# EAGLE library part 5502-15SA-01-F1 (library 5502-15SA-01-F1)
D Sub Connector, Standard, Receptacle, 5502, 15 Contacts, DA, Solder Source: Datasheet <https://4donline.ihs.com/images/VipMasterIC/IC/SCMP/SCMP-S-A0011490128/SCMP-S-A0011490128-1.pdf?hkey=6D3A4C79FDBF58556ACFDE234799DDF0>
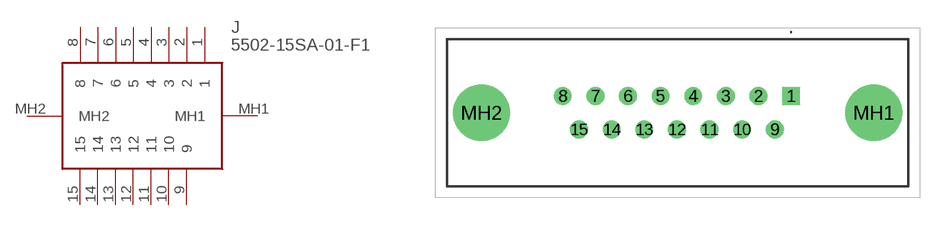
[diagram p0: symbol with the pads of 550215SA01F1; footprint 550215SA01F1]

Designator prefix J

## 5502-15SA-01-F1 (Description: D Sub Connector, Standard, Receptacle, 5502, 15 Contacts, DA, Solder; Height: 11.05mm; Manufacturer_Name: Multicomp Pro; Manufacturer_Part_Number: 5502-15SA-01-F1)  [550215SA01F1]
1  1
2  2
3  3
4  4
5  5
6  6
7  7
8  8
9  9
10  10
11  11
12  12
13  13
14  14
15  15
MH1  MH1
MH2  MH2

## Footprint 550215SA01F1 (pad centres in mm)
5502-15SA-01-F1
drill 1 pad 1.5 square: 1 0,0
drill 1 pad 1.5: 2 -2.77,0; 3 -5.54,0; 4 -8.31,0; 5 -11.08,0; 6 -13.85,0; 7 -16.62,0; 8 -19.39,0; 9 -1.385,-2.84; 10 -4.155,-2.84; 11 -6.925,-2.84; 12 -9.695,-2.84; 13 -12.465,-2.84; 14 -15.235,-2.84; 15 -18.005,-2.84
drill 3.2 pad 4.8: MH1 7.03,-1.42; MH2 -26.29,-1.42